# EAGLE library part JPQ-08- (library jumpers)
Jumper Block
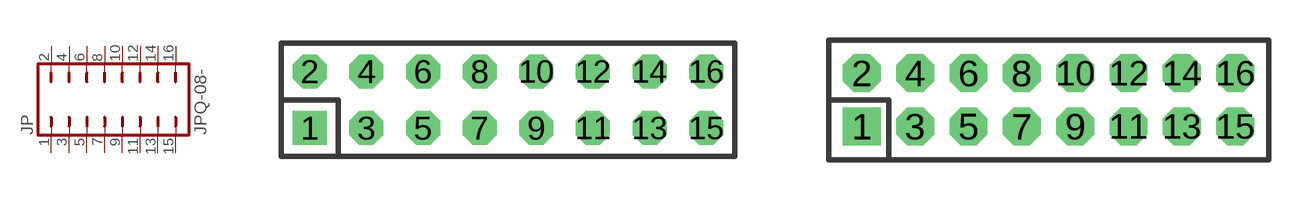
[diagram p13: symbol with the pads of JPQ-08; footprints JPQ-08, JPQ-08M]

Designator prefix JP

## JPQ-08-100  [JPQ-08]
1  1  pas
2  2  pas
3  3  pas
4  4  pas
5  5  pas
6  6  pas
7  7  pas
8  8  pas
9  9  pas
10  10  pas
11  11  pas
12  12  pas
13  13  pas
14  14  pas
15  15  pas
16  16  pas

## JPQ-08-2MM  [JPQ-08M]
Pads as for JPQ-08

## JPQ-08-GXC08  [GXC08]
Pads as for JPQ-08

## Footprint JPQ-08 (pad centres in mm)
JUMPER - 0.1" Pitch
drill 1.016 square: 1 -8.89,-1.27
drill 1.016 octagon: 2 -8.89,1.27; 3 -6.35,-1.27; 4 -6.35,1.27; 5 -3.81,-1.27; 6 -3.81,1.27; 7 -1.27,-1.27; 8 -1.27,1.27; 9 1.27,-1.27; 10 1.27,1.27; 11 3.81,-1.27; 12 3.81,1.27; 13 6.35,-1.27; 14 6.35,1.27; 15 8.89,-1.27; 16 8.89,1.27

## Footprint JPQ-08M (pad centres in mm)
JUMPER - 2.00mm (.079") Pitch
drill 0.914 square: 1 -7,-1
drill 0.914 octagon: 2 -7,1; 3 -5,-1; 4 -5,1; 5 -3,-1; 6 -3,1; 7 -1,-1; 8 -1,1; 9 1,-1; 10 1,1; 11 3,-1; 12 3,1; 13 5,-1; 14 5,1; 15 7,-1; 16 7,1

## Footprint GXC08 (pad centres in mm)
SMD HEADER - 0.1", Vertical
smd 1.27 x 5.08: 1 -8.89,-3.175; 2 -8.89,3.175; 3 -6.35,-3.175; 4 -6.35,3.175; 5 -3.81,-3.175; 6 -3.81,3.175; 7 -1.27,-3.175; 8 -1.27,3.175; 9 1.27,-3.175; 10 1.27,3.175; 11 3.81,-3.175; 12 3.81,3.175; 13 6.35,-3.175; 14 6.35,3.175; 15 8.89,-3.175; 16 8.89,3.175